# EAGLE library part MATRIX_8X8_TRICOLOR_CATHODE_ROW (library matrix)
RGB 8x8 LED Matrix This variety of display has one cathode pin for each row, and three anode pins for each column. Each cathode is shared by red, green and blue anodes for each cell in the matrix. This part matches the matrix sold by SparkFun.com (SKU: COM-00683). Their datasheet lists the source as "China Young Sun LED Technology Co. Ltd.," aka 100LED.com, Model Number YSM-2388CRGBC.
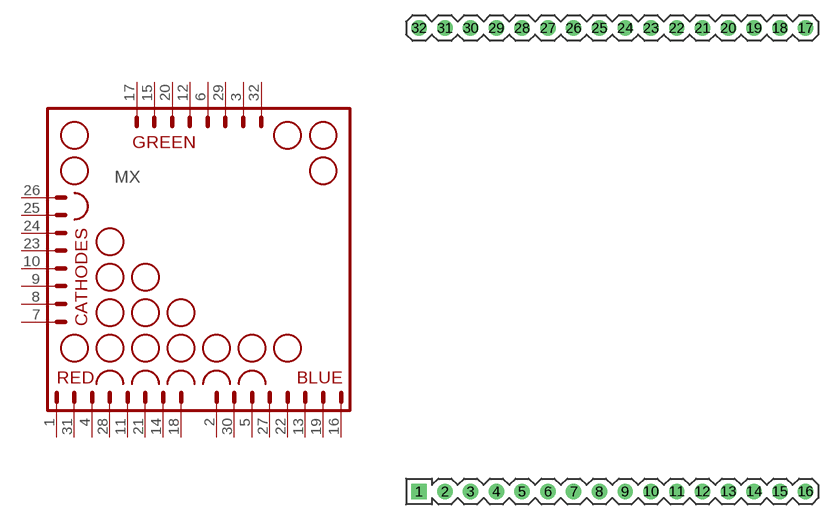
[diagram p1: symbol with the pads of MATRIX_60MM_32PIN; footprint MATRIX_60MM_32PIN]

Designator prefix MX

## MATRIX_8X8_TRICOLOR_CATHODE_ROW  [MATRIX_60MM_32PIN]
1  1  pas
2  9  pas
3  22  pas
4  3  pas
5  11  pas
6  24  pas
7  32  pas
8  31  pas
9  30  pas
10  29  pas
11  5  pas
12  25  pas
13  14  pas
14  7  pas
15  27  pas
16  16  pas
17  28  pas
18  8  pas
19  15  pas
20  26  pas
21  6  pas
22  13  pas
23  20  pas
24  19  pas
25  18  pas
26  17  pas
27  12  pas
28  4  pas
29  23  pas
30  10  pas
31  2  pas
32  21  pas

## Footprint MATRIX_60MM_32PIN (pad centres in mm)
60mm Square Display with 32 Pins This package is a common layout for 60mm LED Matrix devices with 32 pins. An outline is drawn on the Measures layer, if you need to see the physical boundary of the display. It is not drawn in the silkscreen layer, since the outline may collide with low-profile parts far away from the pins of the matrix device. The outline shows "key" features around the perimeter, either protruding or sunk into the square edge. Most matrix components use this scheme instead of a dent near pin one.
drill 1.016 square: 1 -19.05,-22.86
drill 1.016 round: 2 -16.51,-22.86; 3 -13.97,-22.86; 4 -11.43,-22.86; 5 -8.89,-22.86; 6 -6.35,-22.86; 7 -3.81,-22.86; 8 -1.27,-22.86; 9 1.27,-22.86; 10 3.81,-22.86; 11 6.35,-22.86; 12 8.89,-22.86; 13 11.43,-22.86; 14 13.97,-22.86; 15 16.51,-22.86; 16 19.05,-22.86; 17 19.05,22.86; 18 16.51,22.86; 19 13.97,22.86; 20 11.43,22.86; 21 8.89,22.86; 22 6.35,22.86; 23 3.81,22.86; 24 1.27,22.86; 25 -1.27,22.86; 26 -3.81,22.86; 27 -6.35,22.86; 28 -8.89,22.86; 29 -11.43,22.86; 30 -13.97,22.86; 31 -16.51,22.86; 32 -19.05,22.86